# EAGLE library part MCP3008 (library IC_Data-Conversion)
2.7V 4-Channel/8-Channel 10-Bit A/D Converters with SPI™ Serial Interface Datasheet <https://www.mouser.in/datasheet/2/268/21295b-72710.pdf>
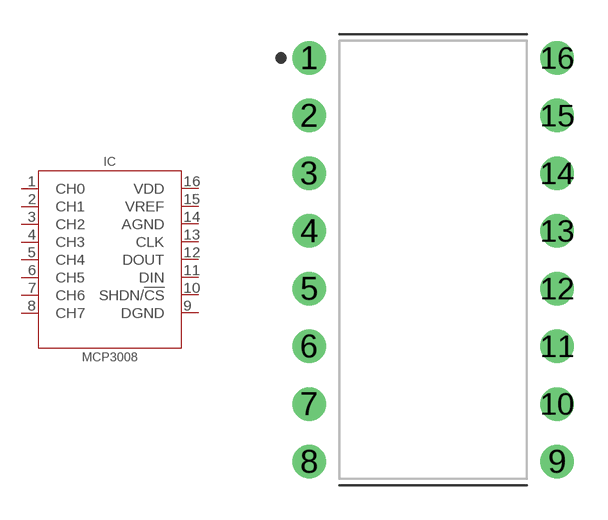
[diagram p5: symbol with the pads of DIP1092W56P254L1905H432Q16B; footprint DIP1092W56P254L1905H432Q16B]

Designator prefix IC

## MCP3008_PDIP (CATEGORY: IC_Data-Conversion; DESCRIPTION: IC ADC 10BIT SAR 16DIP; MANUFACTURER: Microchip Technology; MPN: MCP3008-I/P; OPERATINGTEMP: -40 to +85°C; PART_STATUS: Active; ROHS_COMPLIANT: Compliant; SUB-CATEGORY: A/D Converter; VALUE: MCP3008)  [DIP1092W56P254L1905H432Q16B]
1  CH0  out
2  CH1  in
3  CH2  out
4  CH3  in
5  CH4  in
6  CH5  in
7  CH6  out
8  CH7  in
9  DGND  out
10  SHDN/!CS  out
11  DIN  in
12  DOUT  in
13  CLK  out
14  AGND  in
15  VREF  in
16  VDD  sup

## Footprint DIP1092W56P254L1905H432Q16B (pad centres in mm)
16-DIP, 2.54 mm (0.10 in) pitch, 10.92 mm (0.43 in) span, 19.05 X 7.94 X 4.32 mm body 16-pin DIP package with 2.54 mm (0.10 in) pitch, 10.92 mm (0.43 in) span with body size 19.05 X 7.94 X 4.32 mm
drill 0.877 pad 1.477 round: 1 -5.46,8.89; 2 -5.46,6.35; 3 -5.46,3.81; 4 -5.46,1.27; 5 -5.46,-1.27; 6 -5.46,-3.81; 7 -5.46,-6.35; 8 -5.46,-8.89; 9 5.46,-8.89; 10 5.46,-6.35; 11 5.46,-3.81; 12 5.46,-1.27; 13 5.46,1.27; 14 5.46,3.81; 15 5.46,6.35; 16 5.46,8.89